# EAGLE library part VIDEO_A2000 (library Amiga)
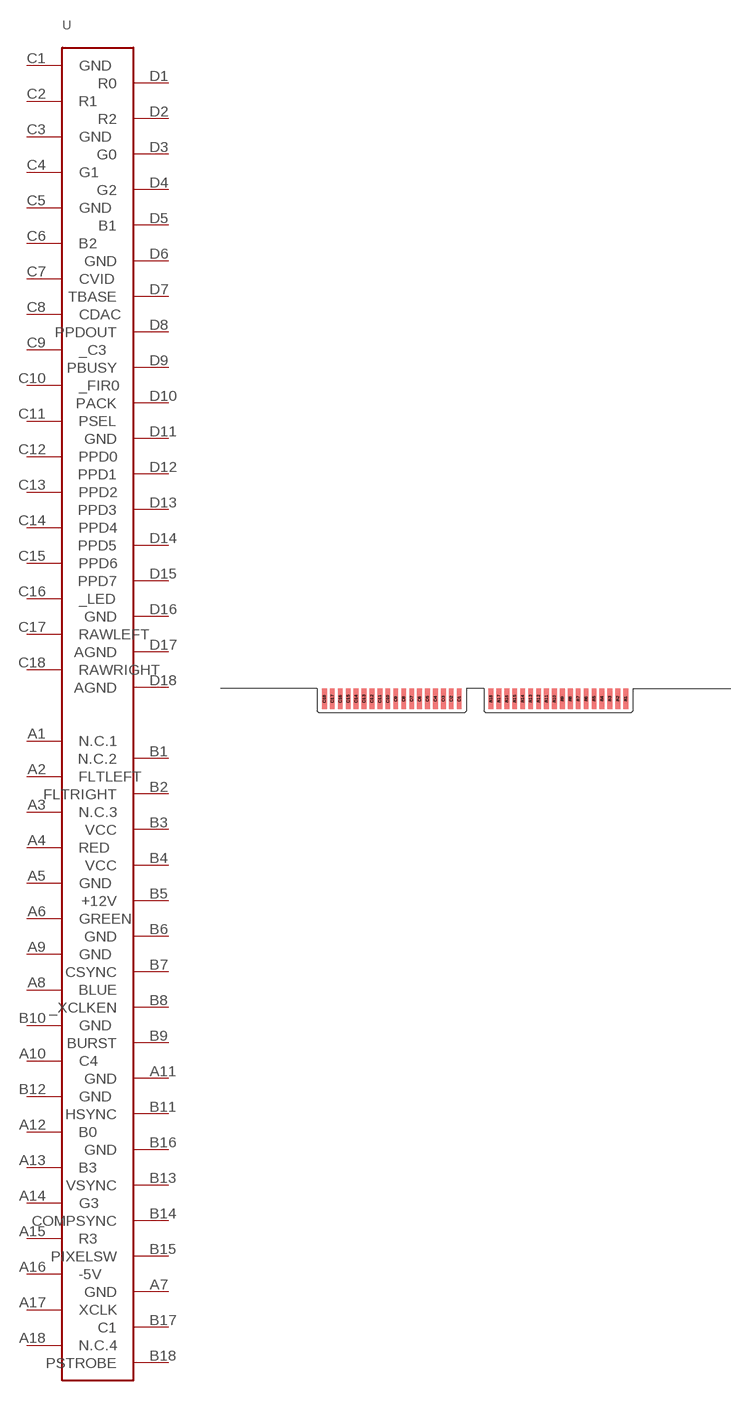
[diagram p44: symbol with the pads of VIDEO; footprint VIDEO]

Designator prefix -

## VIDEO_A2000  [VIDEO]
A1  N.C.1
A2  FLTLEFT
A3  N.C.3
A4  RED
A5  GND
A6  GREEN
A7  GND
A8  BLUE
A9  GND
A10  C4
A11  GND
A12  B0
A13  B3
A14  G3
A15  R3
A16  -5V
A17  XCLK
A18  N.C.4
B1  N.C.2
B2  FLTRIGHT
B3  VCC
B4  VCC
B5  +12V
B6  GND
B7  CSYNC
B8  _XCLKEN
B9  BURST
B10  GND
B11  HSYNC
B12  GND
B13  VSYNC
B14  COMPSYNC
B15  PIXELSW
B16  GND
B17  C1
B18  PSTROBE
C1  GND
C2  R1
C3  GND
C4  G1
C5  GND
C6  B2
C7  CVID
C8  CDAC
C9  _C3
C10  _FIR0
C11  PSEL
C12  PPD0
C13  PPD2
C14  PPD4
C15  PPD6
C16  _LED
C17  RAWLEFT
C18  RAWRIGHT
D1  R0
D2  R2
D3  G0
D4  G2
D5  B1
D6  GND
D7  TBASE
D8  PPDOUT
D9  PBUSY
D10  PACK
D11  GND
D12  PPD1
D13  PPD3
D14  PPD5
D15  PPD7
D16  GND
D17  AGND
D18  AGND

## Footprint VIDEO (pad centres in mm)
smd 1.524 x 6.477: A1 48.895,-3.175; A2 46.355,-3.175; A3 43.815,-3.175; A4 41.275,-3.175; A5 38.735,-3.175; A6 36.195,-3.175; A7 33.655,-3.175; A8 31.115,-3.175; A9 28.575,-3.175; A10 26.035,-3.175; A11 23.495,-3.175; A12 20.955,-3.175; A13 18.415,-3.175; A14 15.875,-3.175; A15 13.335,-3.175; A16 10.795,-3.175; A17 8.255,-3.175; A18 5.715,-3.175; C1 -4.445,-3.175; C2 -6.985,-3.175; C3 -9.525,-3.175; C4 -12.065,-3.175; C5 -14.605,-3.175; C6 -17.145,-3.175; C7 -19.685,-3.175; C8 -22.225,-3.175; C9 -24.765,-3.175; C10 -27.305,-3.175; C11 -29.845,-3.175; C12 -32.385,-3.175; C13 -34.925,-3.175; C14 -37.465,-3.175; C15 -40.005,-3.175; C16 -42.545,-3.175; C17 -45.085,-3.175; C18 -47.625,-3.175
smd 1.524 x 6.477 bottom: B1 48.895,-3.175; B2 46.355,-3.175; B3 43.815,-3.175; B4 41.275,-3.175; B5 38.735,-3.175; B6 36.195,-3.175; B7 33.655,-3.175; B8 31.115,-3.175; B9 28.575,-3.175; B10 26.035,-3.175; B11 23.495,-3.175; B12 20.955,-3.175; B13 18.415,-3.175; B14 15.875,-3.175; B15 13.335,-3.175; B16 10.795,-3.175; B17 8.255,-3.175; B18 5.715,-3.175; D1 -4.445,-3.175; D2 -6.985,-3.175; D3 -9.525,-3.175; D4 -12.065,-3.175; D5 -14.605,-3.175; D6 -17.145,-3.175; D7 -19.685,-3.175; D8 -22.225,-3.175; D9 -24.765,-3.175; D10 -27.305,-3.175; D11 -29.845,-3.175; D12 -32.385,-3.175; D13 -34.925,-3.175; D14 -37.465,-3.175; D15 -40.005,-3.175; D16 -42.545,-3.175; D17 -45.085,-3.175; D18 -47.625,-3.175